# Altium schematic symbol library ee2361_final_project.SchLib: 5 symbols
Pins are listed as number, name and electrical type; pins without a type are passive.

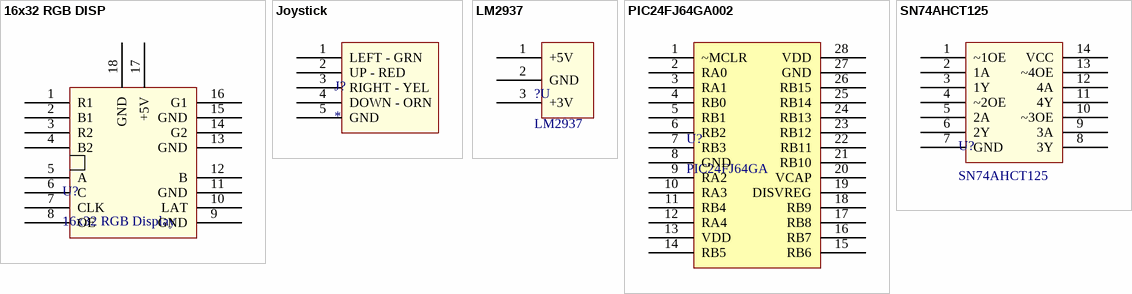
[diagram p0: symbols 16x32 RGB DISP to SN74AHCT125]

## 16x32 RGB DISP
designator U?, comment 16x32 RGB Display
IDC Connector for 16x32 RGB Display
pins: 1 R1, 2 B1, 3 R2, 4 B2, 5 A, 6 C, 7 CLK, 8 OE, 9 GND, 10 LAT, 11 GND, 12 B, 13 GND, 14 G2, 15 GND, 16 G1, 17 +5V, 18 GND

## Joystick
designator J?
pins: 1 LEFT - GRN "Left - Green - Away from connector", 2 UP - RED, 3 RIGHT - YEL, 4 DOWN - ORN, 5 GND

## LM2937
designator ?U
pins: 1 +5V, 2 GND, 3 +3V

## PIC24FJ64GA002
designator U?, comment PIC24FJ64GA
28 Pin PIC 24; Packaging: SPDIP
pins: 1 ~MCLR, 2 RA0, 3 RA1, 4 RB0, 5 RB1, 6 RB2, 7 RB3, 8 GND, 9 RA2, 10 RA3, 11 RB4, 12 RA4, 13 VDD, 14 RB5, 15 RB6, 16 RB7, 17 RB8, 18 RB9, 19 DISVREG, 20 VCAP, 21 RB10, 22 RB11, 23 RB12, 24 RB13, 25 RB14, 26 RB15, 27 GND, 28 VDD

## SN74AHCT125
designator U?
Quadruple Bus Buffer Gates With 3-State Outputs
pins: 1 ~1OE, 2 1A, 3 1Y, 4 ~2OE, 5 2A, 6 2Y, 7 GND, 8 3Y, 9 3A, 10 ~3OE, 11 4Y, 12 4A, 13 ~4OE, 14 VCC